# EAGLE library part WL-SFTW_3528_PLCC6 (library Eagle_WL-SFTW_rev19c)
WL-SFTW SMD Full-color TOP LED Waterclear Characteristics Low energy consumption High reliability Low current requirement Fast switching No UV/IR radiation High brightness RGB individual control Compact package outline LED with Black surface Applications Flash light Switch indicators Equipment indicators Accent and decorative lighting Electronic signage Video displays Backlight for LCDs, PDAs and TVs Oven, microwave Street lighting Ideal for lateral coupling in light guides <http://katalog.we-online.de/media/images/v2/Family_WL-SFTW-neu.jpg> Details see: http://katalog.we-online.de/en/led/WL-SFTW? Created By Yingchun Shan 2018-03-09 2018 (C) Wurth Elektronik
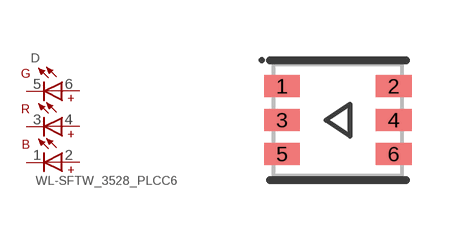
[diagram p2: symbol with the pads of WL-SFTW_3528_PLCC6; footprint WL-SFTW_3528_PLCC6]

Designator prefix D

## WL-SFTW_3528_PLCC6_150352M173300 (WE-NUMBER: 150352M173300)  [WL-SFTW_3528_PLCC6]
1  1  pas
2  2  pas
3  3  pas
4  4  pas
5  5  pas
6  6  pas

## Footprint WL-SFTW_3528_PLCC6 (pad centres in mm)
smd 0.89 x 0.55: 1 -1.395,0.85; 2 1.395,0.85; 3 -1.395,0; 4 1.395,0; 5 -1.395,-0.85; 6 1.395,-0.85